# Altium footprint library BSPD_PCB_library.PcbLib: 8 footprints
Each footprint in its own frame and in the unit in brackets; x right, y up, seen from the top. Pads: shape width x height; smd on the part's side, far side on the other; paste and mask are expansions set on the pad; w line width, h text height; cw(c..) or ccw(c..) is an arc to the next point about the centre after c.
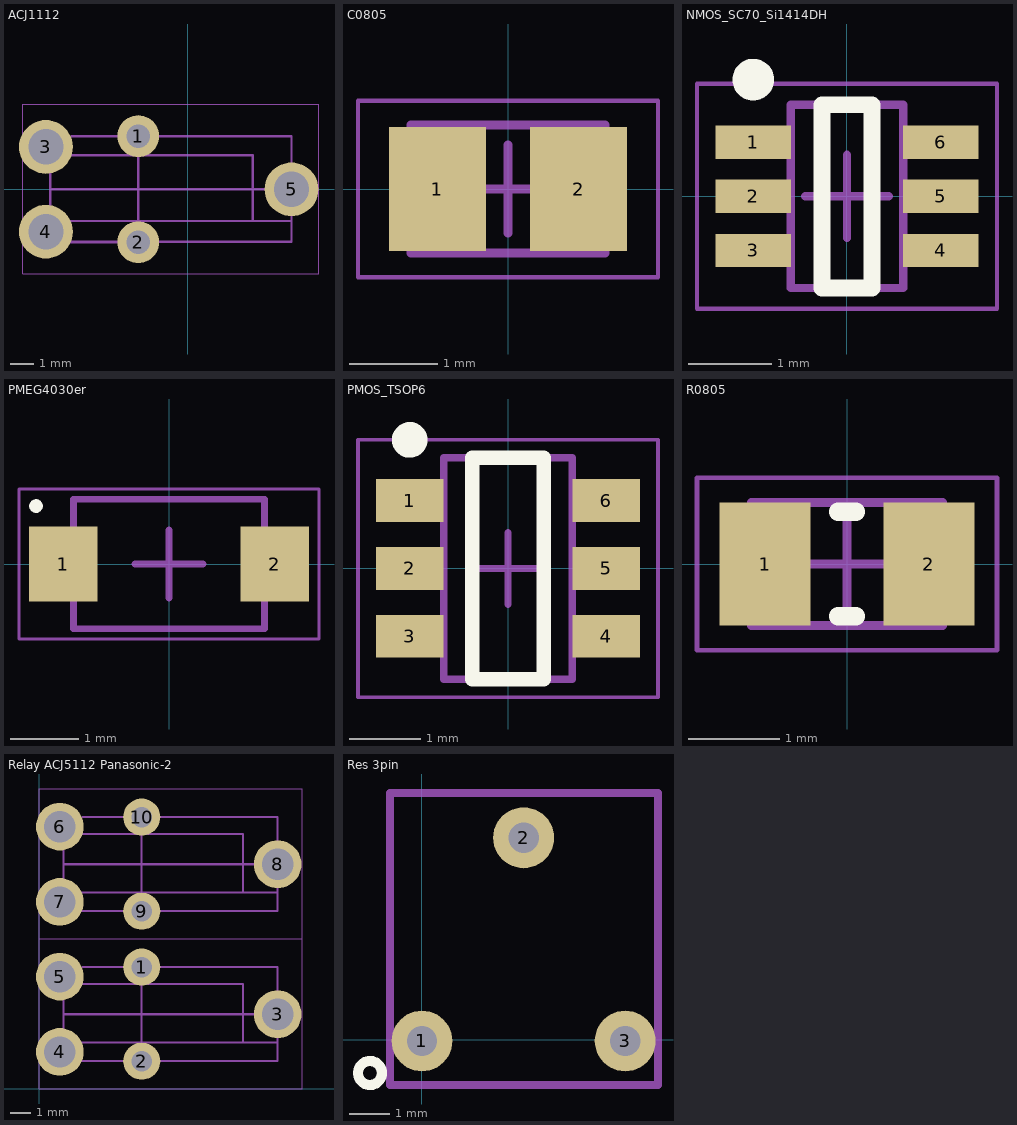
[diagram p0: the footprints below, top view; thin cyan lines are the x and y axes]

## ACJ1112 [mil]
pads (5):
  round 70 hole 39: 1(-82.5,89) 2(-82.5,-88.5)
  round 90 hole 59: 3(-237,71) 4(-237,-71) 5(174,0)
Mechanical 1:
  lines w2: -276,-141 -276,142 220,142 220,-141 -276,-141
  lines w3.94: -253,-88 174,-88 174,0 ; -230,-88.5 -82.5,-88.5 -82.5,89 ; -230,-71 -230,0 ; -230,71 -230,0 ; -194,89 174,89 174,0 ; -230,0 174,0 ; -230,-53 -230,57 109,57 109,0 109,-53 174,-53 -230,-53
  text "COM" at 239,-1 h20
  text "NC" at -316,-66 h20
  text "NO" at -316,39 h20
3D body: height 531, standoff 0, extent -276,-141 219,144
3D body: height 0, standoff -138, extent -254.8,32.06 -204.99,81.96
3D body: height 0, standoff -138, extent -254.8,-77.94 -205,-28.04
3D body: height 0, standoff -138, extent 149.2,-24.94 199,24.96
3D body: height 0, standoff -138, extent -98.37,73.04 -66.49,104.97
3D body: height 0, standoff -138, extent -98.37,-104.46 -66.49,-72.52

## C0805 [mm]
height 1.45
pads (2):
  rect 1.1x1.4 smd: 1(-0.8,0) 2(0.8,0)
Mechanical 13:
  lines w0.1: -1.1,-0.725 1.1,-0.725 1.1,0.725 -1.1,0.725 -1.1,-0.725
Mechanical 15:
  lines w0.05: -1.7,-1 1.7,-1 1.7,1 -1.7,1 -1.7,-1
  lines w0.1: -0.5,0 0.5,0 ; 0,-0.5 0,0.5
3D body: height 1.45, standoff 0, extent 0.6,-0.725 1.1,0.725
3D body: height 1.45, standoff 0, extent -1.1,-0.725 -0.6,0.725
3D body: height 1.45, standoff 0, extent -0.6,-0.725 0.6,0.725

## NMOS_SC70_Si1414DH [mm]
height 1.1
pads (6):
  rect 0.9x0.4 smd mask+0.051: 1(-1.125,0.65) 2(-1.125,0) 3(-1.125,-0.65) 4(1.125,-0.65) 5(1.125,0) 6(1.125,0.65)
Top Overlay:
  circle w0.25: c-1.125,1.4 r0.125
  lines w0.2: -0.3,-1.1 0.3,-1.1 0.3,1.1 -0.3,1.1 -0.3,-1.1
Mechanical 13:
  lines w0.1: -0.675,-1.1 -0.675,1.1 0.675,1.1 0.675,-1.1 -0.675,-1.1
Mechanical 15:
  lines w0.05: -1.8,-1.35 -1.8,1.35 1.8,1.35 1.8,-1.35 -1.8,-1.35
  lines w0.1: -0.5,0 0.5,0 ; 0,-0.5 0,0.5
3D body: height 1.1, standoff 0.1, extent -0.675,-1.1 0.675,1.1

## PMEG4030er [mm] "SODFL, 2-Leads, Body 1,75x3,50mm, IPC Medium Density"
height 1.1
pads (2):
  rect 1x1.1 smd: 1(-1.55,0) 2(1.55,0)
Top Overlay:
  circle w0.1: c-1.95,0.85 r0.05
Mechanical 13:
  lines w0.1: -1.4,-0.95 -1.4,0.95 1.4,0.95 1.4,-0.95 -1.4,-0.95
Mechanical 15:
  lines w0.05: -2.2,-1.1 -2.2,1.1 2.2,1.1 2.2,-1.1 -2.2,-1.1
  lines w0.1: -0.5,0 0.5,0 ; 0,-0.5 0,0.5
3D body: height 1.1, standoff 0, extent -1.4,-0.95 1.4,0.95

## PMOS_TSOP6 [mm] "SOT23, 6-Leads, Body 2,90x2,80mm, Pitch 0,95mm, IPC Medium Density"
height 1.1
pads (6):
  rect 0.95x0.6 smd: 1(-1.375,0.95) 2(-1.375,0) 3(-1.375,-0.95) 4(1.375,-0.95) 5(1.375,0) 6(1.375,0.95)
Top Overlay:
  circle w0.25: c-1.375,1.8 r0.125
  lines w0.2: -0.5,-1.55 -0.5,1.55 0.5,1.55 0.5,-1.55 -0.5,-1.55
Mechanical 13:
  lines w0.1: -0.9,-1.55 0.9,-1.55 0.9,1.55 -0.9,1.55 -0.9,-1.55
Mechanical 15:
  lines w0.05: -2.1,-1.8 2.1,-1.8 2.1,1.8 -2.1,1.8 -2.1,-1.8
  lines w0.1: -0.5,0 0.5,0 ; 0,-0.5 0,0.5
3D body: height 1.1, standoff 0.1, extent -0.9,-1.55 0.9,1.55

## R0805 [mm]
height 0.6
pads (2):
  rect 1x1.35 smd: 1(-0.9,0) 2(0.9,0)
Top Overlay:
  lines w0.2: -0.1,-0.575 0.1,-0.575 ; -0.1,0.575 0.1,0.575
Mechanical 13:
  lines w0.1: -1.05,-0.675 1.05,-0.675 1.05,0.675 -1.05,0.675 -1.05,-0.675
Mechanical 15:
  lines w0.05: -1.65,-0.95 1.65,-0.95 1.65,0.95 -1.65,0.95 -1.65,-0.95
  lines w0.1: -0.5,0 0.5,0 ; 0,-0.5 0,0.5
3D body: height 0.6, standoff 0, extent 0.7,-0.675 1.05,0.675
3D body: height 0.6, standoff 0, extent -1.05,-0.675 -0.7,0.675
3D body: height 0.6, standoff 0, extent -0.7,-0.675 0.7,0.675

## Relay ACJ5112 Panasonic-2 [mil] "ACJ panasonic"
height 531
pads (10):
  round 70 hole 39: 1(193.5,230) 2(193.5,52.5) 9(193.5,335.5) 10(193.5,513)
  round 90 hole 59: 3(450,141) 4(39,70) 5(39,212) 6(39,495) 7(39,353) 8(450,424)
Mechanical 1:
  lines w2: 0,283 0,566 496,566 496,283 ; 0,283 496,283 ; 0,283 0,0 496,0 496,283 ; 0,283 496,283
  lines w3.94: 23,53 450,53 450,141 ; 23,336 450,336 450,424 ; 46,52.5 193.5,52.5 193.5,230 ; 46,70 46,141 ; 46,212 46,141 ; 46,335.5 193.5,335.5 193.5,513 ; 46,353 46,424 ; 46,495 46,424 ; 82,230 450,230 450,141 ; 82,513 450,513 450,424 ; 46,141 450,141 ; 46,424 450,424 ; 46,88 450,88 385,88 385,141 385,198 46,198 46,88 ; 46,371 46,481 385,481 385,424 385,371 450,371 46,371
  text "COM" at 515,423 h20
  text "NC" at -49,341 h20
  text "NO" at -60,480 h20
  text "NO" at -57,200 h20
  text "NC" at -51,55 h20
  text "COM" at 515,140 h20
3D body: height 531, standoff 0, extent 0,283 495,568
3D body: height 0, standoff -138, extent 21.2,456.06 71.01,505.96
3D body: height 0, standoff -138, extent 21.2,346.06 71,395.96
3D body: height 0, standoff -138, extent 425.2,399.06 475,448.96
3D body: height 0, standoff -138, extent 177.63,497.04 209.51,528.97
3D body: height 0, standoff -138, extent 177.63,319.54 209.51,351.48
3D body: height 0, standoff -138, extent 177.63,36.54 209.51,68.48
3D body: height 0, standoff -138, extent 177.63,214.04 209.51,245.97
3D body: height 0, standoff -138, extent 425.2,116.06 475,165.96
3D body: height 0, standoff -138, extent 21.2,63.06 71,112.96
3D body: height 0, standoff -138, extent 21.2,173.06 71.01,222.96
3D body: height 531, standoff 0, extent 0,0 495,285

## Res 3pin [mil]
pads (3):
  round 60 hole 30: 1(0.04,-1.26) 2(100.04,198.74) 3(200.04,-1.26)
Top Overlay:
  circle w10: c-51.14,-32.76 r11.81
Mechanical 1:
  lines w7.87: -31.46,-44.57 -31.46,242.83 35.47,242.83 141.77,242.83 185.08,242.83 232.32,242.83 232.32,144.41 232.32,-44.57 -31.46,-44.57
3D body: height 190.16, standoff 19.68, extent -31.46,-44.57 232.32,242.83